# EAGLE library part 643260100608 (library WR-CIRC)
WR-CIRCM12 Screw Mating Panel Connector Female Metal PG9 Kind Properties Gender Female Packaging Properties Packaging Tray Electrical Properties IR 2 A; 5 A Working Voltage 30 V; 60 V; 250 V Withstanding Voltage 650 V (AC); 1000 V (AC); 1400 V (AC) Contact Resistance Initial 10 mΩ RISO 100 MΩ General Information Durability 100 Mating cycles Ingress Protection Code IP68 Operating Temperature -40 up to +90 °C Material Properties Insulator Material PA66 Insulator Flammability Rating UL94 V-0 Insulator Color Black Contact Material Copper Alloy Contact Plating Gold <https://www.we-online.com/components/media/o722384v209%20family-wr-circ-m12-6432601006xx.jpg> Details see: www.we-online.com/en/components/products/WR-CIRCM12_PANEL_CONNECTOR_FEMALE_METAL_PG9 Created by Ella 2023-03-14 2023 (C) Würth Elektronik
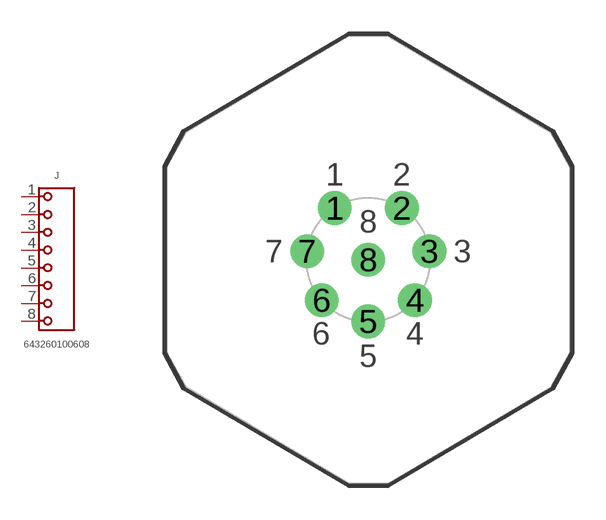
[diagram p10: symbol with the pads of 643260100608; footprint 643260100608]

Designator prefix J

## 643260100608 (DATASHEET-URL: https://www.we-online.com/redexpert/spec/643260100608?ae; GENDER: Female; MOUNT: THT; PART-NUMBER: 643260100608; POLARITY: 8; RATED-CURRENT: 2A; RISO: 100 MO; VALUE: 643260100608; WITHSTANDING-VOLTAGE: 650V(AC); WORKING-VOLTAGE: 30V)  [643260100608]
1  1  pas
2  2  pas
3  3  pas
4  4  pas
5  5  pas
6  6  pas
7  7  pas
8  8  pas

## Footprint 643260100608 (pad centres in mm)
WR-CIRCM12 Screw Mating Panel Connector Female Metal PG9 THT, 8pins
drill 1: 1 -1.498,2.306; 2 1.498,2.306; 3 2.723,0.383; 4 2.075,-1.804; 5 0,-2.75; 6 -2.075,-1.804; 7 -2.723,0.383; 8 0,0